# Altium footprint library YLXC_PCB.PcbLib: 11 footprints
Each footprint in its own frame and in the unit in brackets; x right, y up, seen from the top. Pads: shape width x height; smd on the part's side, far side on the other; paste and mask are expansions set on the pad; w line width, h text height; cw(c..) or ccw(c..) is an arc to the next point about the centre after c.
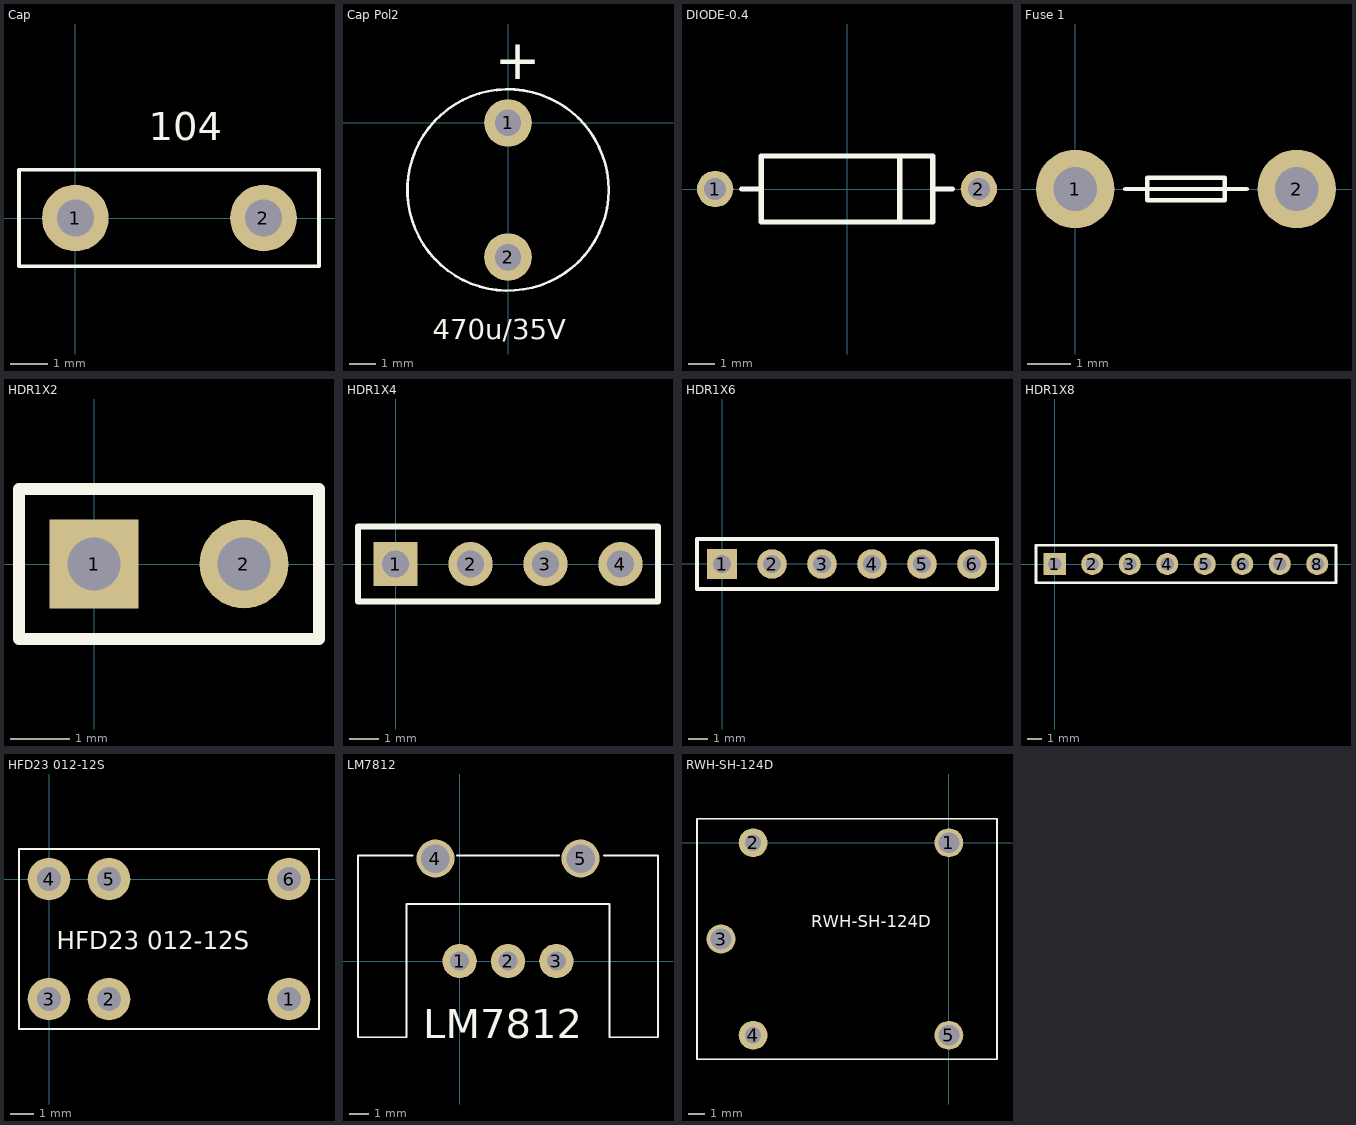
[diagram p0: the footprints below, top view; thin cyan lines are the x and y axes]

## Cap [mm]
height 6
pads (2):
  round 1.8 hole 1 mask+0.102: 1(0,0) 2(5.08,0)
Top Overlay:
  lines w0.1: -1.524,-1.3 6.58,-1.3 6.58,1.3 -1.524,1.3 -1.524,-1.3
  text "104" at 1.978,2.105 h0.76

## Cap Pol2 [mm]
height 6
pads (2):
  round 1.8 hole 1 mask+0.102: 1(0,0) 2(0,-5.08)
Top Overlay:
  circle w0.1: c0,-2.54 r3.81
  text "+" at -0.508,1.651 h1.52
  text "470u/35V" at -2.848,-8.182 h0.76

## DIODE-0.4 [mm] "Diode, Thru-Hole; 2 Leads; 0.4 in Pin Spacing"
height 2.54
pads (2):
  round 1.4 hole 0.85: 1(-5.08,0) 2(5.08,0)
Top Overlay:
  lines w0.2: -4.064,0 -3.302,0 ; 2.032,-1.27 2.032,1.27 ; 3.302,0 4.064,0 ; -3.302,-1.27 3.302,-1.27 3.302,1.27 -3.302,1.27 -3.302,-1.27

## Fuse 1 [mm]
height 6
pads (2):
  round 1.8 hole 1 paste+0 mask+0.203: 1(0,0)
  round 1.8 hole 1 mask+0.203: 2(5.08,0)
Top Overlay:
  lines w0.1: 1.143,0 3.937,0 ; 2.54,-0.254 3.429,-0.254 ; 3.429,-0.254 1.651,-0.254 1.651,0.254 3.429,0.254 3.429,-0.254

## HDR1X2 [mm] "Connector; Header; 2 Position"
height 6
pads (2):
  rect 1.5x1.5 hole 0.9 mask+0.102: 1(0,0)
  round 1.5 hole 0.9 mask+0.102: 2(2.54,0)
Top Overlay:
  lines w0.2: -1.27,-1.27 3.81,-1.27 3.81,1.27 -1.27,1.27 -1.27,-1.27

## HDR1X4 [mm] "Connector; Header; 4 Position"
height 6
pads (4):
  rect 1.5x1.5 hole 0.9: 1(0,0)
  round 1.5 hole 0.9: 2(2.54,0) 3(5.08,0) 4(7.62,0)
Top Overlay:
  lines w0.2: -1.27,-1.27 8.89,-1.27 8.89,1.27 -1.27,1.27 -1.27,-1.27

## HDR1X6 [mm] "Connector; Header; 6 Position"
height 6
pads (6):
  rect 1.5x1.5 hole 0.9: 1(0,0)
  round 1.5 hole 0.9: 2(2.54,0) 3(5.08,0) 4(7.62,0) 5(10.16,0) 6(12.7,0)
Top Overlay:
  lines w0.2: -1.27,-1.27 -1.27,1.27 13.97,1.27 13.97,-1.27 -1.27,-1.27

## HDR1X8 [mm] "Connector; Header; 8 Position"
height 6
pads (8):
  rect 1.5x1.5 hole 0.9: 1(0,0)
  round 1.5 hole 0.9: 2(2.54,0) 3(5.08,0) 4(7.62,0) 5(10.16,0) 6(12.7,0) 7(15.24,0) 8(17.78,0)
Top Overlay:
  lines w0.2: -1.27,-1.27 -1.27,1.27 19.05,1.27 19.05,-1.27 -1.27,-1.27

## HFD23 012-12S [mm]
height 6
pads (6):
  round 1.8 hole 1 mask+0.102: 1(10.16,-5.08) 2(2.54,-5.08) 3(0,-5.08) 4(0,0) 5(2.54,0) 6(10.16,0)
Top Overlay:
  lines w0.1: -1.27,-6.35 11.43,-6.35 11.43,1.27 -1.27,1.27 -1.27,-6.35
  text "HFD23 012-12S" at 0.327,-2.975 h0.76

## LM7812 [mm]
height 6
pads (5):
  round 1.8 hole 1 paste+0: 1(0,0) 2(2.54,0) 3(5.08,0)
  round 2 hole 1.5 paste+0: 4(-1.27,5.382)
  round 2 hole 1.5: 5(6.35,5.382)
Top Overlay:
  lines w0.1: -2.461,5.54 -5.334,5.54 -5.334,-4 -2.794,-4 -2.794,3 7.874,3 7.874,-4 10.414,-4 10.414,5.54 7.572,5.54 ; -0.127,5.54 5.207,5.54
  text "LM7812" at -1.905,-4.064 h1.52

## RWH-SH-124D [mm]
height 6
pads (5):
  round 1.8 hole 1.3: 1(0,0) 3(-14.2,-6) 5(0,-12)
  round 1.8 hole 1: 2(-12.2,0) 4(-12.2,-12)
Top Overlay:
  lines w0.1: -15.7,-13.5 3,-13.5 3,1.5 -15.7,1.5 -15.7,-13.5
  text "RWH-SH-124D" at -8.563,-5.261 h0.76